# Altium footprint library BELL_PcbLib.PcbLib: 11 footprints
Each footprint in its own frame and in the unit in brackets; x right, y up, seen from the top. Pads: shape width x height; smd on the part's side, far side on the other; paste and mask are expansions set on the pad; w line width, h text height; cw(c..) or ccw(c..) is an arc to the next point about the centre after c.
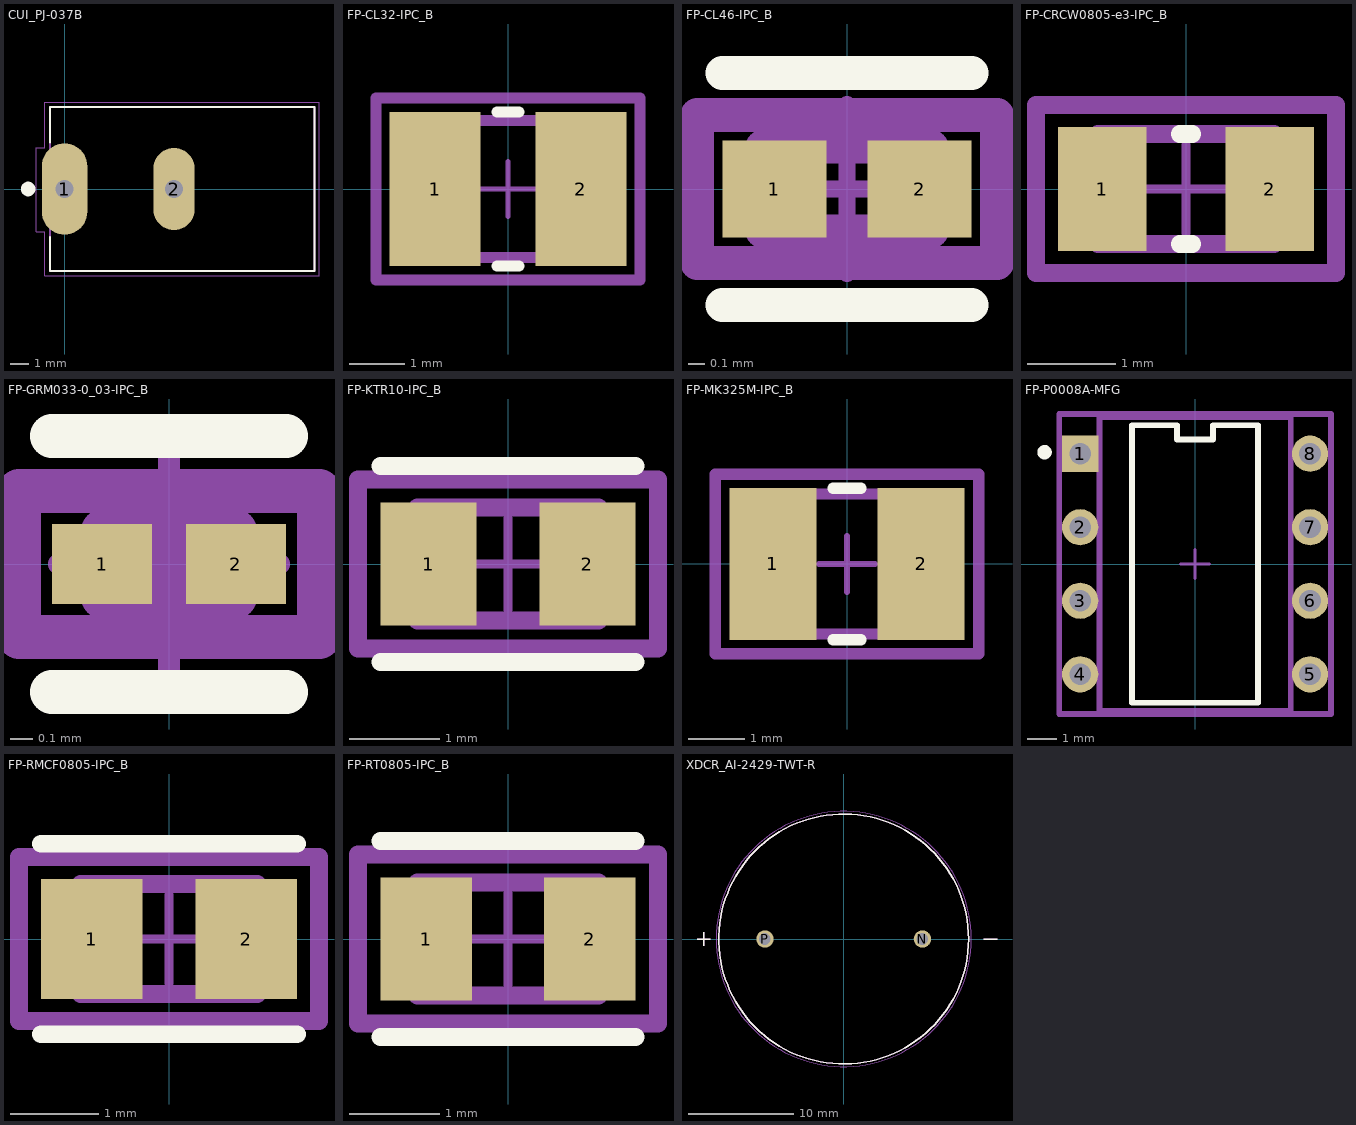
[diagram p0: the footprints below, top view; thin cyan lines are the x and y axes]

## CUI_PJ-037B [mm] "Vcc"
pads (2):
  oval 2.5x5 hole 1 square: 1(0,0)
  oval 2.25x4.5 hole 1 square: 2(6,0)
Top Overlay:
  circle w0.4: c-2,0 r0.2
  lines w0.127: -0.8,-2.65 -0.8,-4.5 13.7,-4.5 13.7,4.5 -0.8,4.5 -0.8,2.55
Mechanical 13:
  lines w0.127: -0.8,-4.5 -0.8,4.5 13.7,4.5 13.7,-4.5 -0.8,-4.5
Mechanical 15:
  lines w0.05: -1.55,-2.35 -1.1,-2.35 -1.1,-4.75 13.95,-4.75 13.95,4.75 -1.1,4.75 -1.1,2.25 -1.55,2.25 -1.55,-2.35
3D body "CUI_DEVICES_PJ-037B.step": height 10.51, standoff -3.99, extent -0.773,-4.555 13.727,4.445

## FP-CL32-IPC_B [mm] "100uF"
pads (2):
  rect 1.653x2.804 smd paste+0 mask+0: 1(-1.325,0) 2(1.325,0)
Top Overlay:
  lines w0.2: -0.199,-1.402 0.199,-1.402 ; -0.199,1.402 0.199,1.402
Mechanical 5:
  lines w0.2: -2.402,-1.652 -2.402,1.652 2.402,1.652 2.402,-1.652 -2.402,-1.652
  text ".Designator" at 0,0.188 h1
Mechanical 13:
  lines w0.2: -1.6,-1.25 -1.6,1.25 1.6,1.25 1.6,-1.25 -1.6,-1.25
Mechanical 15:
  lines w0.2: -2.402,-1.652 -2.402,1.652 2.402,1.652 2.402,-1.652 -2.402,-1.652
Mechanical 16:
  lines w0.1: -0.5,0 0.5,0 ; 0,-0.5 0,0.5
3D body "Cap_Samsung_Electro-Mechanics_America_Inc_CL32C472JBFNNNE_eec.STEP": height 0.25, standoff 0, extent -2.402,-1.652 2.402,1.652

## FP-CL46-IPC_B [mm] "0.1uF"
pads (2):
  rect 0.615x0.572 smd paste+0 mask+0: 1(-0.429,0) 2(0.429,0)
Top Overlay:
  lines w0.2: -0.736,-0.686 0.736,-0.686 ; -0.736,0.686 0.736,0.686
Mechanical 5:
  lines w0.2: -0.886,-0.436 0.886,-0.436 0.886,0.436 -0.886,0.436 -0.886,-0.436
  text ".Designator" at 0,-0.001 h1
Mechanical 13:
  lines w0.2: -0.5,-0.25 0.5,-0.25 0.5,0.25 -0.5,0.25 -0.5,-0.25
Mechanical 15:
  lines w0.2: -0.886,-0.436 0.886,-0.436 0.886,0.436 -0.886,0.436 -0.886,-0.436
Mechanical 16:
  lines w0.1: -0.5,0 0.5,0 -0.5,0 ; 0,-0.5 0,0.5 0,-0.5
3D body "Cap_Samsung_CL05A104KP5NNNC_eec.STEP": height 0.25, standoff 0, extent -0.886,-0.436 0.886,0.436

## FP-CRCW0805-e3-IPC_B [mm] "100k"
pads (2):
  rect 1.007x1.408 smd paste+0 mask+0: 1(-0.951,0) 2(0.951,0)
Top Overlay:
  lines w0.2: -0.073,-0.625 0.073,-0.625 ; -0.073,0.625 0.073,0.625
Mechanical 5:
  lines w0.2: -1.704,-0.954 1.704,-0.954 1.704,0.954 -1.704,0.954 -1.704,-0.954
  text ".Designator" at 0,0.188 h1
Mechanical 13:
  lines w0.2: -1,-0.625 1,-0.625 1,0.625 -1,0.625 -1,-0.625
Mechanical 15:
  lines w0.2: -1.704,-0.954 1.704,-0.954 1.704,0.954 -1.704,0.954 -1.704,-0.954
Mechanical 16:
  lines w0.1: -0.5,0 0.5,0 ; 0,-0.5 0,0.5
3D body "Res_Vishay_CRCW0805100KFKEA_eec.STEP": height 0.25, standoff 0, extent -1.704,-0.954 1.704,0.954

## FP-GRM033-0_03-IPC_B [mm] "0.012u"
pads (2):
  rect 0.454x0.363 smd paste+0 mask+0: 1(-0.304,0) 2(0.304,0)
Top Overlay:
  lines w0.2: -0.531,-0.581 0.531,-0.581 ; -0.531,0.581 0.531,0.581
Mechanical 5:
  lines w0.2: -0.681,-0.331 0.681,-0.331 0.681,0.331 -0.681,0.331 -0.681,-0.331
  text ".Designator" at 0,0.188 h1
Mechanical 13:
  lines w0.2: -0.3,-0.15 0.3,-0.15 0.3,0.15 -0.3,0.15 -0.3,-0.15
Mechanical 15:
  lines w0.2: -0.681,-0.331 0.681,-0.331 0.681,0.331 -0.681,0.331 -0.681,-0.331
Mechanical 16:
  lines w0.1: -0.5,0 0.5,0 ; 0,-0.5 0,0.5
3D body "Cap_Murata_GRM0335C1HR30BA01D_eec.STEP": height 0.25, standoff 0, extent -0.681,-0.331 0.681,0.331

## FP-KTR10-IPC_B [mm] "39k"
pads (2):
  rect 1.058x1.362 smd paste+0 mask+0: 1(-0.877,0) 2(0.877,0)
Top Overlay:
  lines w0.2: -1.406,-1.081 1.406,-1.081 ; -1.406,1.081 1.406,1.081
Mechanical 5:
  lines w0.2: -1.656,-0.931 -1.656,0.931 1.656,0.931 1.656,-0.931 -1.656,-0.931
  text ".Designator" at 0,0.188 h1
Mechanical 13:
  lines w0.2: -1,-0.625 -1,0.625 1,0.625 1,-0.625 -1,-0.625
Mechanical 15:
  lines w0.2: -1.656,-0.931 -1.656,0.931 1.656,0.931 1.656,-0.931 -1.656,-0.931
Mechanical 16:
  lines w0.1: -0.5,0 0.5,0 ; 0,-0.5 0,0.5
3D body "Res_Rohm_KTR10EZPJ151_eec.STEP": height 0.25, standoff 0, extent -1.656,-0.931 1.656,0.931

## FP-MK325M-IPC_B [mm] "47uF"
pads (2):
  rect 1.553x2.706 smd paste+0 mask+0: 1(-1.325,0) 2(1.325,0)
Top Overlay:
  lines w0.2: -0.249,-1.353 0.249,-1.353 ; -0.249,1.353 0.249,1.353
Mechanical 5:
  lines w0.2: -2.352,-1.603 -2.352,1.603 2.352,1.603 2.352,-1.603 -2.352,-1.603
  text ".Designator" at 0,0.188 h1
Mechanical 13:
  lines w0.2: -1.6,-1.25 -1.6,1.25 1.6,1.25 1.6,-1.25 -1.6,-1.25
Mechanical 15:
  lines w0.2: -2.352,-1.603 -2.352,1.603 2.352,1.603 2.352,-1.603 -2.352,-1.603
Mechanical 16:
  lines w0.1: -0.5,0 0.5,0 ; 0,-0.5 0,0.5
3D body "Cap_Taiyo_Yuden_UMK325C7106MM-T_eec.STEP": height 0.25, standoff 0, extent -2.352,-1.603 2.352,1.603

## FP-P0008A-MFG [mm]
pads (8):
  rect 1.25x1.25 hole 0.75 paste-1000 mask+0: 1(-3.97,3.81)
  round 1.25 hole 0.75 paste-1000 mask+0: 2(-3.97,1.27) 3(-3.97,-1.27) 4(-3.97,-3.81) 5(3.97,-3.81) 6(3.97,-1.27) 7(3.97,1.27) 8(3.97,3.81)
Top Overlay:
  circle w0.25: c-5.2,3.86 r0.125
  lines w0.2: -2.175,-4.795 2.175,-4.795 2.175,4.795 0.621,4.795 0.621,4.295 -0.621,4.295 -0.621,4.795 -2.175,4.795 -2.175,-4.795
Mechanical 5:
  lines w0.2: -4.695,-5.18 -4.695,5.18 4.695,5.18 4.695,-5.18 -4.695,-5.18
  text ".Designator" at 0,0.188 h1
Mechanical 13:
  lines w0.2: -3.3,-5.08 -3.3,5.08 3.3,5.08 3.3,-5.08 -3.3,-5.08
Mechanical 15:
  lines w0.2: -4.695,-5.18 -4.695,5.18 4.695,5.18 4.695,-5.18 -4.695,-5.18
Mechanical 16:
  lines w0.1: -0.5,0 0.5,0 ; 0,-0.5 0,0.5
3D body "IC_Texas_Instruments_LM555CN-NOPB_eec.STEP": height 0.25, standoff 0, extent -4.695,-5.18 4.695,5.18

## FP-RMCF0805-IPC_B [mm] "2,2k"
pads (2):
  rect 1.155x1.362 smd paste+0 mask+0: 1(-0.876,0) 2(0.876,0)
Top Overlay:
  lines w0.2: -1.453,-1.081 1.453,-1.081 ; -1.453,1.081 1.453,1.081
Mechanical 5:
  lines w0.2: -1.703,-0.931 -1.703,0.931 1.703,0.931 1.703,-0.931 -1.703,-0.931
  text ".Designator" at 0,0.188 h1
Mechanical 13:
  lines w0.2: -1,-0.625 -1,0.625 1,0.625 1,-0.625 -1,-0.625
Mechanical 15:
  lines w0.2: -1.703,-0.931 -1.703,0.931 1.703,0.931 1.703,-0.931 -1.703,-0.931
Mechanical 16:
  lines w0.1: -0.5,0 0.5,0 ; 0,-0.5 0,0.5
3D body "Res_Stackpole_Electronics_RMCF0805JT220K_eec.STEP": height 0.25, standoff 0, extent -1.703,-0.931 1.703,0.931

## FP-RT0805-IPC_B [mm] "24,9"
pads (2):
  rect 1.008x1.362 smd paste+0 mask+0: 1(-0.902,0) 2(0.902,0)
Top Overlay:
  lines w0.2: -1.406,-1.081 1.406,-1.081 ; -1.406,1.081 1.406,1.081
Mechanical 5:
  lines w0.2: -1.656,-0.931 1.656,-0.931 1.656,0.931 -1.656,0.931 -1.656,-0.931
  text ".Designator" at 0,0.188 h1
Mechanical 13:
  lines w0.2: -1,-0.625 1,-0.625 1,0.625 -1,0.625 -1,-0.625
Mechanical 15:
  lines w0.2: -1.656,-0.931 1.656,-0.931 1.656,0.931 -1.656,0.931 -1.656,-0.931
Mechanical 16:
  lines w0.1: -0.5,0 0.5,0 ; 0,-0.5 0,0.5
3D body "Res_Yageo_RT0805WRB07165RL_eec.STEP": height 0.25, standoff 0, extent -1.656,-0.931 1.656,0.931

## XDCR_AI-2429-TWT-R [mm] "buzz"
pads (2):
  round 1.65 hole 1.1: N(7.5,0) P(-7.5,0)
Top Overlay:
  circle w0.127: c0,0 r11.9
  lines w0.127: -13.97,0 -12.7,0 ; -13.335,-0.635 -13.335,0.635 ; 13.335,0 14.605,0
Mechanical 13:
  circle w0.127: c0,0 r11.9
  lines w0.127: -13.97,0 -12.7,0 ; -13.335,-0.635 -13.335,0.635 ; 13.335,0 14.605,0
Mechanical 15:
  circle w0.05: c0,0 r12.15
3D body "AI-2429-TWT-R--3DModel-STEP-1.STEP": height 16.01, standoff -6, extent -11.9,-11.9 13.25,11.9